# EAGLE library part TR1000 (library rfm-ash)
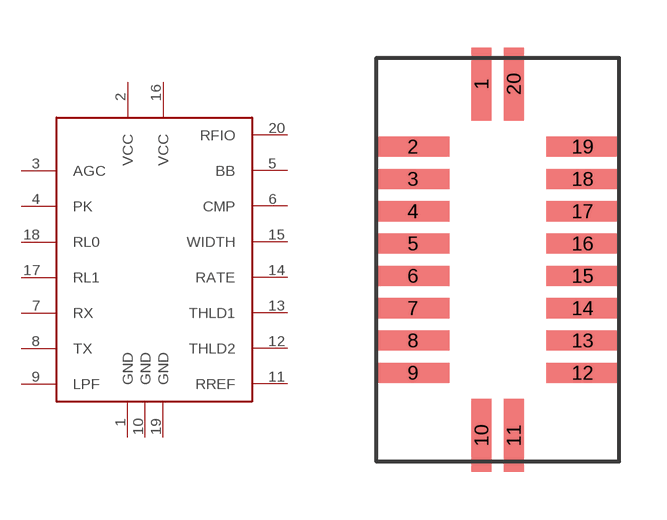
[diagram p0: symbol with the pads of SM-20H; footprint SM-20H]

Designator prefix -

## TR1000H  [SM-20H]
1  GND
2  VCC
3  AGC
4  PK
5  BB
6  CMP
7  RX
8  TX
9  LPF
10  GND
11  RREF
12  THLD2
13  THLD1
14  RATE
15  WIDTH
16  VCC
17  RL1
18  RL0
19  GND
20  RFIO

## Footprint SM-20H (pad centres in mm)
High Frequency Package
smd 0.635 x 2.286: 1 -0.508,5.524; 10 -0.508,-5.524; 11 0.508,-5.524; 20 0.508,5.524
smd 2.286 x 0.635: 2 -2.667,3.556; 3 -2.667,2.54; 4 -2.667,1.524; 5 -2.667,0.508; 6 -2.667,-0.508; 7 -2.667,-1.524; 8 -2.667,-2.54; 9 -2.667,-3.556; 12 2.667,-3.556; 13 2.667,-2.54; 14 2.667,-1.524; 15 2.667,-0.508; 16 2.667,0.508; 17 2.667,1.524; 18 2.667,2.54; 19 2.667,3.556